# Altium footprint library BMI-S-102.PcbLib: 1 footprints
Each footprint in its own frame and in the unit in brackets; x right, y up, seen from the top. Pads: shape width x height; smd on the part's side, far side on the other; paste and mask are expansions set on the pad; w line width, h text height; cw(c..) or ccw(c..) is an arc to the next point about the centre after c.
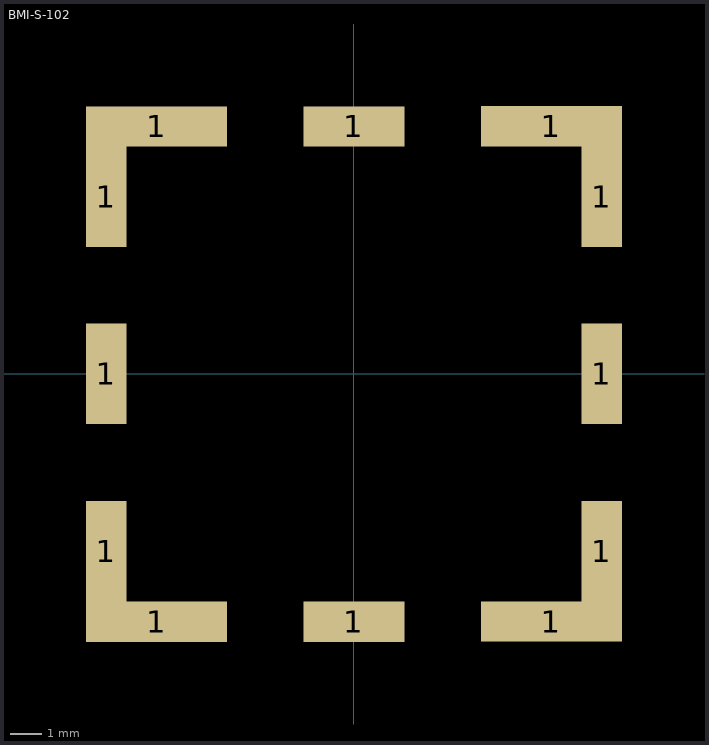
[diagram p0: the footprint, top view; thin cyan lines are the x and y axes]

## BMI-S-102 [mm]
pads (12):
  rect 1.3x3.25 smd: 1(-8.002,0) 1(-8.002,5.716) 1(-8,-5.73) 1(8.001,-5.726) 1(8.003,0) 1(8.003,5.721)
  rect 4.55x1.3 smd: 1(-6.377,7.99) 1(-6.376,-8.005) 1(6.376,-8.001) 1(6.378,7.996)
  rect 3.25x1.3 smd: 1(0,-8.005) 1(0,7.989)